# Altium footprint library Buzzer.PcbLib: 1 footprints
Each footprint in its own frame and in the unit in brackets; x right, y up, seen from the top. Pads: shape width x height; smd on the part's side, far side on the other; paste and mask are expansions set on the pad; w line width, h text height; cw(c..) or ccw(c..) is an arc to the next point about the centre after c.
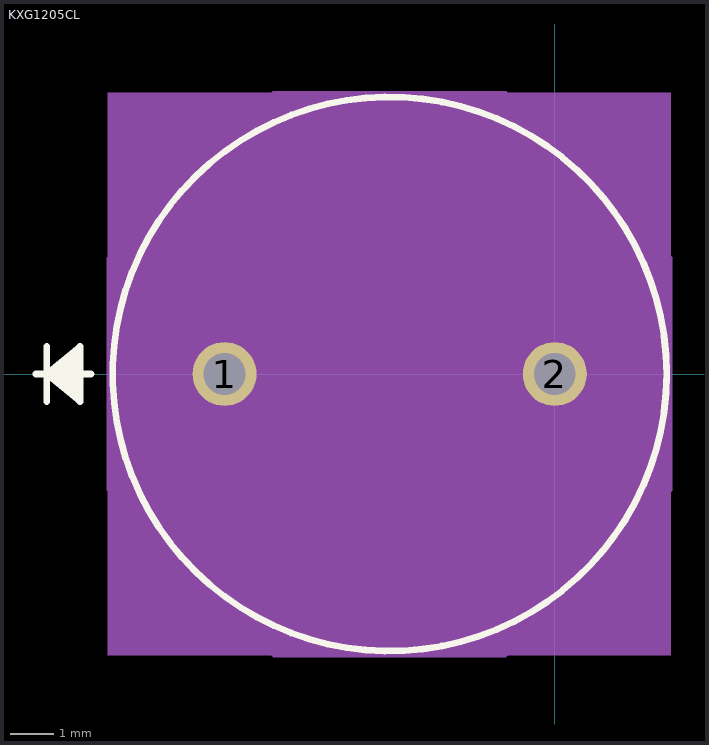
[diagram p0: the footprint, top view; thin cyan lines are the x and y axes]

## KXG1205CL [mil]
pads (2):
  round 58 hole 38 mask+0: 1(-299.21,0) 2(0,0)
Top Overlay:
  circle w6: c-149.61,0 r251
  lines w6: -470.21,0 -420.21,0 ; -460.21,-25 -460.21,25 ; -430.21,-20 -460.21,0 ; -430.21,-15 -460.21,0 ; -430.21,-10 -460.21,0 ; -430.21,-5 -460.21,0 ; -430.21,5 -460.21,0 ; -430.21,10 -460.21,0 ; -430.21,15 -460.21,0 ; -430.21,20 -460.21,0 ; -460.21,0 -430.21,25 -430.21,-25 -460.21,0
Mechanical 5:
  region: 105,-255 -405,-255 -405,255 105,255
Mechanical 13:
  circle w0: c-149.61,0 r246
  lines w1: -470.21,0 -420.21,0 ; -460.21,-25 -460.21,25 ; -430.21,-20 -460.21,0 ; -430.21,-15 -460.21,0 ; -430.21,-10 -460.21,0 ; -430.21,-5 -460.21,0 ; -430.21,5 -460.21,0 ; -430.21,10 -460.21,0 ; -430.21,15 -460.21,0 ; -430.21,20 -460.21,0 ; -460.21,0 -430.21,25 -430.21,-25 -460.21,0
Mechanical 15:
  region: -405.61,105.41 -255.02,256 -44.19,256 106.39,105.41 106.39,-105.41 -44.19,-256 -255.02,-256 -405.61,-105.41
  lines w1: -405.61,-105.41 -255.02,-256 -44.19,-256 106.39,-105.41 106.39,105.41 -44.19,256 -255.02,256 -405.61,105.41 -405.61,-105.41
3D body: height 10, standoff 0, extent 0,0 10,10
3D body "ALSRobot-BUZZER.step": height 379.92, standoff -177.17, extent -384.21,-235 224.21,237.44